# Altium footprint library Pcblibv2.PcbLib: 88 footprints (part 6 of 6)
Each footprint in its own frame and in the unit in brackets; x right, y up, seen from the top. Pads: shape width x height; smd on the part's side, far side on the other; paste and mask are expansions set on the pad; w line width, h text height; cw(c..) or ccw(c..) is an arc to the next point about the centre after c.
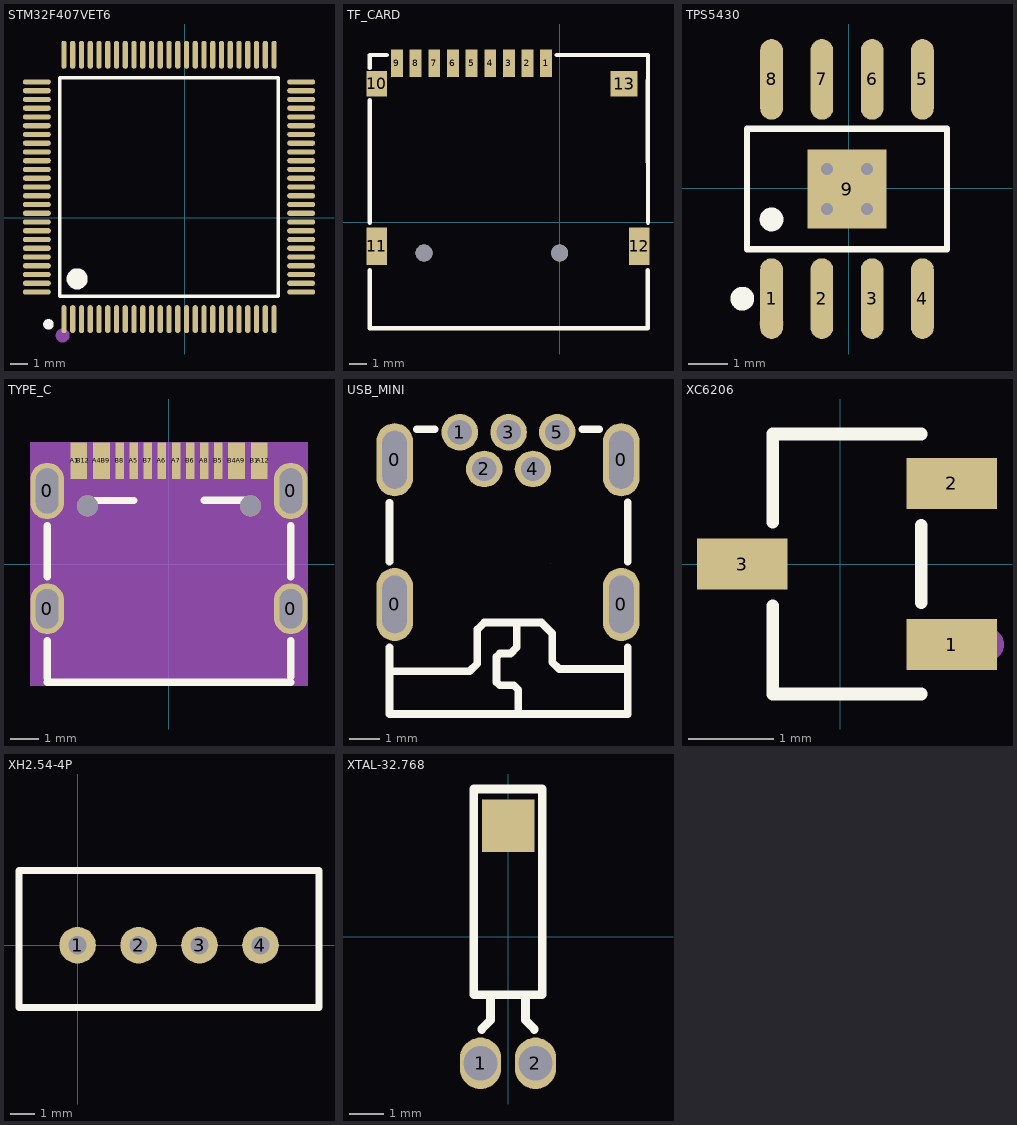
[diagram p5: the footprints below, top view; thin cyan lines are the x and y axes]

## STM32F407VET6 [mm]
pads (100):
  oval 0.3x1.6 smd: 1(-6.889,-5.782) 2(-6.389,-5.782) 3(-5.889,-5.782) 4(-5.389,-5.782) 5(-4.889,-5.782) 6(-4.389,-5.782) 7(-3.889,-5.782) 8(-3.389,-5.782) 9(-2.889,-5.782) 10(-2.389,-5.782) 11(-1.889,-5.782) 12(-1.389,-5.782) 13(-0.889,-5.782) 14(-0.389,-5.782) 15(0.111,-5.782) 16(0.611,-5.782) 17(1.111,-5.782) 18(1.611,-5.782) 19(2.111,-5.782) 20(2.611,-5.782) 21(3.111,-5.782) 22(3.611,-5.782) 23(4.111,-5.782) 24(4.611,-5.782) 25(5.111,-5.782) 51(5.111,9.318) 52(4.611,9.318) 53(4.111,9.318) 54(3.611,9.318) 55(3.111,9.318) 56(2.611,9.318) 57(2.111,9.318) 58(1.611,9.318) 59(1.111,9.318) 60(0.611,9.318) 61(0.111,9.318) 62(-0.389,9.318) 63(-0.889,9.318) 64(-1.389,9.318) 65(-1.889,9.318) 66(-2.389,9.318) 67(-2.889,9.318) 68(-3.389,9.318) 69(-3.889,9.318) 70(-4.389,9.318) 71(-4.889,9.318) 72(-5.389,9.318) 73(-5.889,9.318) 74(-6.389,9.318) 75(-6.889,9.318)
  oval 1.6x0.3 smd: 26(6.661,-4.232) 27(6.661,-3.732) 28(6.661,-3.232) 29(6.661,-2.732) 30(6.661,-2.232) 31(6.661,-1.732) 32(6.661,-1.232) 33(6.661,-0.732) 34(6.661,-0.232) 35(6.661,0.268) 36(6.661,0.768) 37(6.661,1.268) 38(6.661,1.768) 39(6.661,2.268) 40(6.661,2.768) 41(6.661,3.268) 42(6.661,3.768) 43(6.661,4.268) 44(6.661,4.768) 45(6.661,5.268) 46(6.661,5.768) 47(6.661,6.268) 48(6.661,6.768) 49(6.661,7.268) 50(6.661,7.768) 76(-8.439,7.768) 77(-8.439,7.268) 78(-8.439,6.768) 79(-8.439,6.268) 80(-8.439,5.768) 81(-8.439,5.268) 82(-8.439,4.768) 83(-8.439,4.268) 84(-8.439,3.768) 85(-8.439,3.268) 86(-8.439,2.768) 87(-8.439,2.268) 88(-8.439,1.768) 89(-8.439,1.268) 90(-8.439,0.768) 91(-8.439,0.268) 92(-8.439,-0.232) 93(-8.439,-0.732) 94(-8.439,-1.232) 95(-8.439,-1.732) 96(-8.439,-2.232) 97(-8.439,-2.732) 98(-8.439,-3.232) 99(-8.439,-3.732) 100(-8.439,-4.232)
Top Overlay:
  lines w0.2: -7.139,-4.482 5.361,-4.482 5.361,8.018 -7.139,8.018 -7.139,-4.482
  lines w0.3: -7.772,-5.928 ccw(c-7.771,-6.078) -7.77,-5.928
  lines w0.6: -6.139,-3.183 ccw(c-6.137,-3.483) -6.134,-3.183
Top Paste:
  drawing of 100 lines, arcs and shapes, not listed
Mechanical 15:
  circle w0.4: c-6.96,-6.716 r0.2

## TF_CARD [mm] "C266620"
pads (15):
  rect 0.7x1.6 smd: 1(-0.816,9.39) 2(-1.916,9.39) 3(-3.015,9.39) 4(-4.115,9.39) 5(-5.216,9.39) 6(-6.316,9.39) 7(-7.415,9.39) 8(-8.516,9.39) 9(-9.616,9.39)
  rect 1.2x1.5 smd: 10(-10.815,8.19)
  rect 1.2x2.2 smd: 11(-10.815,-1.41) 12(4.685,-1.41)
  rect 1.6x1.5 smd: 13(3.784,8.19)
  round 1 hole 1 unplated: ""(-8.015,-1.81) ""(-0.015,-1.81)
Top Overlay:
  lines w0.254: -11.23,-2.824 -11.23,-6.253 5.184,-6.253 5.184,-2.824 5.184,-2.91 ; -11.23,-0.032 -11.23,7.207 ; -11.23,9.112 -11.23,9.874 -10.214,9.874 ; -0.181,9.874 5.192,9.874 5.184,6.99 5.192,-0.032

## TPS5430 [mm]
pads (9):
  oval 0.574x2.038 smd: 1(-1.952,-2.785) 2(-0.682,-2.785) 3(0.588,-2.785) 4(1.858,-2.785) 5(1.858,2.753) 6(0.588,2.753) 7(-0.682,2.753) 8(-1.952,2.753)
  rect 2x2 smd: 9(-0.047,-0.016)
via 0.453,0.484 diameter 0.61 hole 0.305
via -0.547,0.484 diameter 0.61 hole 0.305
via -0.547,-0.516 diameter 0.61 hole 0.305
via 0.453,-0.516 diameter 0.61 hole 0.305
Top Overlay:
  circle w0.3: c-1.952,-0.785 r0.15
  circle w0.3: c-2.691,-2.785 r0.15
  lines w0.152: -2.573,-1.537 -2.573,1.505 2.479,1.505 2.479,-1.537 -2.573,-1.537
Mechanical 15:
  circle w0.3: c-1.952,-3.416 r0.15

## TYPE_C [mm]
pads (22):
  oval 1.2x1.8 hole 0.8 slot 1.4 at 90 deg: 0(-4.32,-1.589) 0(4.32,-1.589)
  oval 1.2x2 hole 0.8 slot 1.6 at 90 deg: 0(-4.32,2.591) 0(4.32,2.591)
  rect 0.3x1.3 smd: A1(-3.35,3.658) A4(-2.55,3.658) A5(-1.25,3.658) A6(-0.25,3.658) A7(0.25,3.658) A8(1.25,3.659) A9(2.55,3.658) A12(3.35,3.658) B1(3.05,3.658) B4(2.25,3.658) B5(1.75,3.658) B6(0.75,3.658) B7(-0.75,3.658) B8(-1.75,3.659) B9(-2.25,3.658) B12(-3.05,3.658)
  round 0.75 hole 0.75 unplated: ""(-2.89,2.061) ""(2.89,2.061)
Top Overlay:
  lines w0.254: -4.32,-4.192 4.32,-4.192 ; -4.32,-4.056 -4.32,-2.72 ; -4.32,-0.458 -4.32,1.36 ; -3,2.256 -1.25,2.256 ; 1.247,2.259 2.997,2.259 ; 4.32,-4.005 4.32,-2.72 ; 4.32,-0.458 4.32,1.36
Mechanical 4:
  circle w0.375: c2.89,2.061 r0.187
  circle w0.375: c-2.89,2.061 r0.187
  region: -4.92,4.319 4.92,4.319 4.92,-4.319 -4.92,-4.319
Mechanical 5:
  circle w0.127: c2.89,2.061 r0.375
  circle w0.127: c-2.89,2.061 r0.375
  region: -4.92,3.591 -3.72,3.591 -3.72,1.591 -4.92,1.591
  region: 3.72,3.591 4.92,3.591 4.92,1.591 3.72,1.591
  region: 3.72,-0.689 4.92,-0.689 4.92,-2.489 3.72,-2.489
  region: -4.92,-0.689 -3.72,-0.689 -3.72,-2.489 -4.92,-2.489
  region: 3.2,4.308 3.5,4.308 3.5,3.008 3.2,3.008
  region: 2.9,4.308 3.2,4.308 3.2,3.008 2.9,3.008
  region: 2.4,4.308 2.7,4.308 2.7,3.008 2.4,3.008
  region: 2.1,4.308 2.4,4.308 2.4,3.008 2.1,3.008
  region: 1.6,4.308 1.9,4.308 1.9,3.008 1.6,3.008
  region: 1.1,4.309 1.4,4.309 1.4,3.009 1.1,3.009
  region: 0.6,4.308 0.9,4.308 0.9,3.008 0.6,3.008
  region: 0.1,4.308 0.4,4.308 0.4,3.008 0.1,3.008
  region: -0.4,4.308 -0.1,4.308 -0.1,3.008 -0.4,3.008
  region: -0.9,4.308 -0.6,4.308 -0.6,3.008 -0.9,3.008
  region: -1.4,4.308 -1.1,4.308 -1.1,3.008 -1.4,3.008
  region: -1.9,4.309 -1.6,4.309 -1.6,3.009 -1.9,3.009
  region: -2.4,4.308 -2.1,4.308 -2.1,3.008 -2.4,3.008
  region: -2.7,4.308 -2.4,4.308 -2.4,3.008 -2.7,3.008
  region: -3.2,4.308 -2.9,4.308 -2.9,3.008 -3.2,3.008
  region: -3.5,4.308 -3.2,4.308 -3.2,3.008 -3.5,3.008
3D body "typec.STEP": height 3.13, standoff -1.07, extent -4.267,-3.896 4.673,4.004

## USB_MINI [mm]
pads (9):
  oval 1.2x2.4 hole 0.8 slot 1.9 at 90 deg: 0(22.291,-6.991) 0(22.291,-2.241) 0(29.731,-6.991) 0(29.731,-2.241)
  round 1.2 hole 0.8: 1(24.431,-1.339) 2(25.231,-2.543) 3(26.031,-1.339) 4(26.831,-2.543) 5(27.631,-1.339)
Top Overlay:
  lines w0.254: 22.118,-8.404 22.118,-10.587 29.943,-10.587 29.943,-8.394 ; 22.118,-5.578 22.118,-3.654 ; 22.157,-9.188 24.748,-9.188 25.002,-8.934 25.002,-7.816 25.231,-7.587 27.11,-7.587 27.466,-7.943 27.466,-8.883 27.694,-9.111 29.943,-9.111 ; 23.017,-1.237 23.606,-1.237 ; 26.297,-7.587 26.297,-8.324 26.297,-8.4 26.094,-8.603 25.739,-8.603 25.637,-8.705 25.637,-9.543 25.739,-9.645 26.196,-9.645 26.348,-9.797 26.348,-10.432 ; 28.456,-1.237 29.005,-1.237 ; 29.943,-5.587 29.943,-3.644
Mechanical 15:
  lines w0.003: 27.408,-5.638 27.408,-5.637

## XC6206 [mm]
pads (3):
  rect 1.07x0.6 smd: 1(1.314,-0.95) 2(1.314,0.95) 3(-1.156,0)
Top Overlay:
  lines w0.152: -0.797,-0.495 -0.797,-1.536 0.955,-1.536 ; -0.797,0.495 -0.797,1.536 0.955,1.536 ; 0.955,-0.455 0.955,0.455
Mechanical 15:
  circle w0.2: c1.73,-0.95 r0.1

## XH2.54-4P [mil]
pads (4):
  round 60 hole 30: 1(0,0) 2(100,0) 3(200,0) 4(300,0)
Top Overlay:
  lines w11.81: -96.1,-102 -96.1,122.41 396.03,122.41 396.03,-102 -96.1,-102

## XTAL-32.768 [mm] "长的"
pads (3):
  oval 1.2x1.5 hole 1: 1(-0.8,-3.688) 2(0.8,-3.688)
  rect 1.524x1.524 smd: ""(0.01,3.241)
Top Overlay:
  lines w0.254: -0.762,-2.708 -0.762,-2.688 -0.508,-2.435 -0.508,-2.307 -0.508,-1.799 ; 0.508,-1.799 0.508,-2.307 0.508,-2.434 0.762,-2.688 0.762,-2.708 ; -1,-1.688 -1,4.311 1,4.311 1,-1.688 -1,-1.688